# Altium schematic symbol library edgeConn.SchLib: 2 symbols
Pins are listed as number, name and electrical type; pins without a type are passive.

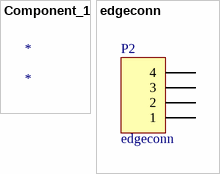
[diagram p0: symbols Component_1 to edgeconn]

## Component_1
designator *

## edgeconn
designator P2
Header, 4-Pin; LatestRevisionDate: 17-Jul-2002; LatestRevisionNote: Re-released for DXP Platform.; Publisher: Altium Limited
signal-integrity model Connector
footprint edgecon (Connector; Header; 4 Position)
footprint edgecon - power (Connector; Header; 4 Position)
pins: 1, 2, 3, 4